# EAGLE library part 5559IN13U2 (library 5559)
5559ИН13У2
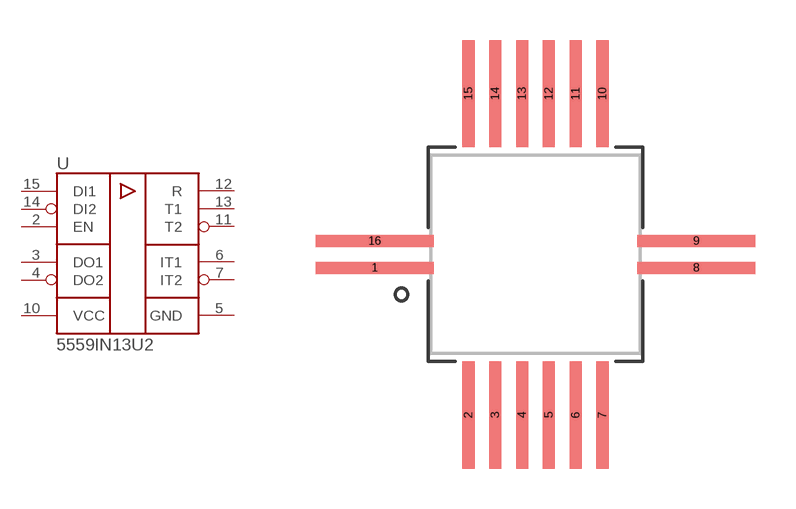
[diagram p4: symbol with the pads of H04.16-1B; footprint H04.16-1B]

Designator prefix U

## 5559IN13U2  [H04.16-1B]
2  EN
3  DO1
4  DO2
5  GND
6  IT1
7  IT2
10  VCC
11  T2
12  R
13  T1
14  DI2
15  DI1

## Footprint H04.16-1B (pad centres in mm)
smd 4.4 x 0.45: 1 -6,-0.5; 8 6,-0.5; 9 6,0.5; 16 -6,0.5
smd 0.45 x 4: 2 -2.5,-6; 3 -1.5,-6; 4 -0.5,-6; 5 0.5,-6; 6 1.5,-6; 7 2.5,-6; 10 2.5,6; 11 1.5,6; 12 0.5,6; 13 -0.5,6; 14 -1.5,6; 15 -2.5,6